# Altium schematic symbol library MOSFET-N-CH-DPAK.SchLib: 1 symbol
Pins are listed as number, name and electrical type; pins without a type are passive.

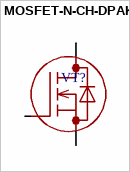
[diagram p0: symbol MOSFET-N-CH-DPAK]

## MOSFET-N-CH-DPAK
designator VT?
pins: 1 G, 3 S, 4 D